# Altium footprint library POT_RES.PcbLib: 4 footprints
Each footprint in its own frame and in the unit in brackets; x right, y up, seen from the top. Pads: shape width x height; smd on the part's side, far side on the other; paste and mask are expansions set on the pad; w line width, h text height; cw(c..) or ccw(c..) is an arc to the next point about the centre after c.
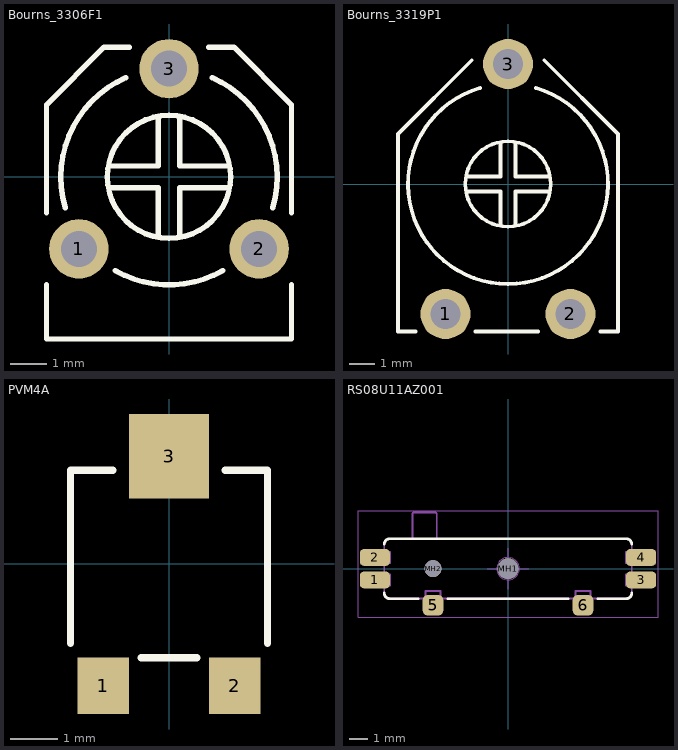
[diagram p0: the footprints below, top view; thin cyan lines are the x and y axes]

## Bourns_3306F1 [mm]
pads (3):
  round 1.65 hole 1: 1(-2.5,-2) 2(2.5,-2) 3(0,3)
Top Overlay:
  circle w0.15: c0,0 r1.709
  lines w0.15: -3.4,-3 -3.4,-4.5 3.4,-4.5 3.4,-3 ; -3.4,-1 -3.4,2 -1.8,3.6 -1.1,3.6 ; -2.876,-0.852 cw(c0,0) -1.196,2.751 ; -1.6,-0.3 -0.3,-0.3 -0.3,-1.6 ; -1.6,0.3 -0.3,0.3 -0.3,1.6 ; -1.499,-2.599 ccw(c0,0) 1.499,-2.599 ; 0.3,-1.6 0.3,-0.3 1.6,-0.3 ; 0.3,1.6 0.3,0.3 1.6,0.3 ; 1.1,3.6 1.8,3.6 3.4,2 3.4,-1 ; 1.196,2.751 cw(c0,0) 2.876,-0.852
3D body "3306F001.stp": height 7.69, standoff -2.8, extent -3.404,-4.528 3.404,3.6

## Bourns_3319P1 [mm]
pads (3):
  round 2 hole 1.2: 1(-2.5,-5.2) 2(2.5,-5.2) 3(0,4.8)
Top Overlay:
  circle w0.15: c0,0 r1.709
  lines w0.15: -3.7,-5.9 -4.4,-5.9 -4.4,2 -1.45,4.95 ; -1.6,-0.3 -0.3,-0.3 -0.3,-1.6 ; -1.6,0.3 -0.3,0.3 -0.3,1.6 ; -1.3,-5.9 1.2,-5.9 ; -1.112,3.842 ccw(c0,0) 1.112,3.842 ; 0.3,-1.6 0.3,-0.3 1.6,-0.3 ; 0.3,1.6 0.3,0.3 1.6,0.3 ; 1.45,4.95 4.4,2 4.4,-5.9 3.7,-5.9
3D body "3319p.stp": height 6.41, standoff -3.94, extent -4.496,-5.994 4.496,5.359

## PVM4A [mm]
pads (3):
  rect 1.1x1.2 smd: 1(-1.4,-2.6) 2(1.4,-2.6)
  rect 1.7x1.8 smd: 3(0,2.3)
Top Overlay:
  lines w0.15: -2.1,-1.7 -2.1,2 -1.2,2 ; -0.6,-2 0.6,-2 ; 1.2,2 2.1,2 2.1,-1.7

## RS08U11AZ001 [mm]
pads (8):
  rrect50% 1.6x0.9 smd: 1(-7.1,-0.6) 2(-7.1,0.6) 3(7.1,-0.6) 4(7.1,0.6)
  rrect50% 1.1x1.1 smd: 5(-4,-1.95) 6(4,-1.95)
  round 1.1 hole 1.1: MH1(0,0)
  round 0.9 hole 0.9: MH2(-4,0)
Top Overlay:
  lines w0.15: -6.6,-1.3 ccw(c-6.3,-1.3) -6.3,-1.6 -4.8,-1.6 ; -6.6,1.3 cw(c-6.3,1.3) -6.3,1.6 6.3,1.6 cw(c6.3,1.3) 6.6,1.3 ; -3.2,-1.6 3.2,-1.6 ; 4.8,-1.6 6.3,-1.6 ccw(c6.3,-1.3) 6.6,-1.3
Mechanical 14:
  lines w0.1: -5.1,1.6 -5.1,2.9 cw(c-5,2.9) -5,3 -3.9,3 cw(c-3.9,2.9) -3.8,2.9 -3.8,1.6 ; -7.5,-0.9 -6.3,-0.9 -6.3,-0.3 -7.5,-0.3 -7.5,-0.9 ; -7.5,0.3 -7.5,0.9 -6.3,0.9 -6.3,0.3 -7.5,0.3 ; -6.6,-1.3 ccw(c-6.3,-1.3) -6.3,-1.6 6.3,-1.6 ccw(c6.3,-1.3) 6.6,-1.3 6.6,1.3 ccw(c6.3,1.3) 6.3,1.6 -6.3,1.6 ccw(c-6.3,1.3) -6.6,1.3 -6.6,-1.3 ; -4.4,-2.1 -4.4,-1.2 -3.6,-1.2 -3.6,-2.1 -4.4,-2.1 ; 3.6,-2.1 4.4,-2.1 4.4,-1.2 3.6,-1.2 3.6,-2.1 ; 6.3,-0.9 7.5,-0.9 7.5,-0.3 6.3,-0.3 6.3,-0.9 ; 6.3,0.3 7.5,0.3 7.5,0.9 6.3,0.9 6.3,0.3
  text ".Designator" at -1.5,-0.4 h0.8
Mechanical 15:
  circle w0.05: c0,0 r0.6
  lines w0.05: -1.1,0 1.1,0 ; 0,-1.1 0,1.1 ; -8,-2.6 -8,3.1 8,3.1 8,-2.6 -8,-2.6
3D body "RS08U11AZ001.STEP": height 2.1, standoff -0.3, extent -7.4,-1.999 7.4,2.8